# Altium schematic symbol library TC33X-2-103E.SchLib: 1 symbol
Pins are listed as number, name and electrical type; pins without a type are passive.

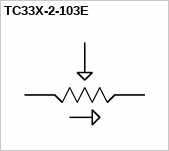
[diagram p0: symbol TC33X-2-103E]

## TC33X-2-103E
designator R?  (value not drawn)
Value: *
footprint 35WR_TC33X-2-103E(Primary)
pins: 1, 2, 3